# Altium footprint library Inductor2.PcbLib: 19 footprints (part 1 of 2)
Each footprint in its own frame and in the unit in brackets; x right, y up, seen from the top. Pads: shape width x height; smd on the part's side, far side on the other; paste and mask are expansions set on the pad; w line width, h text height; cw(c..) or ccw(c..) is an arc to the next point about the centre after c.
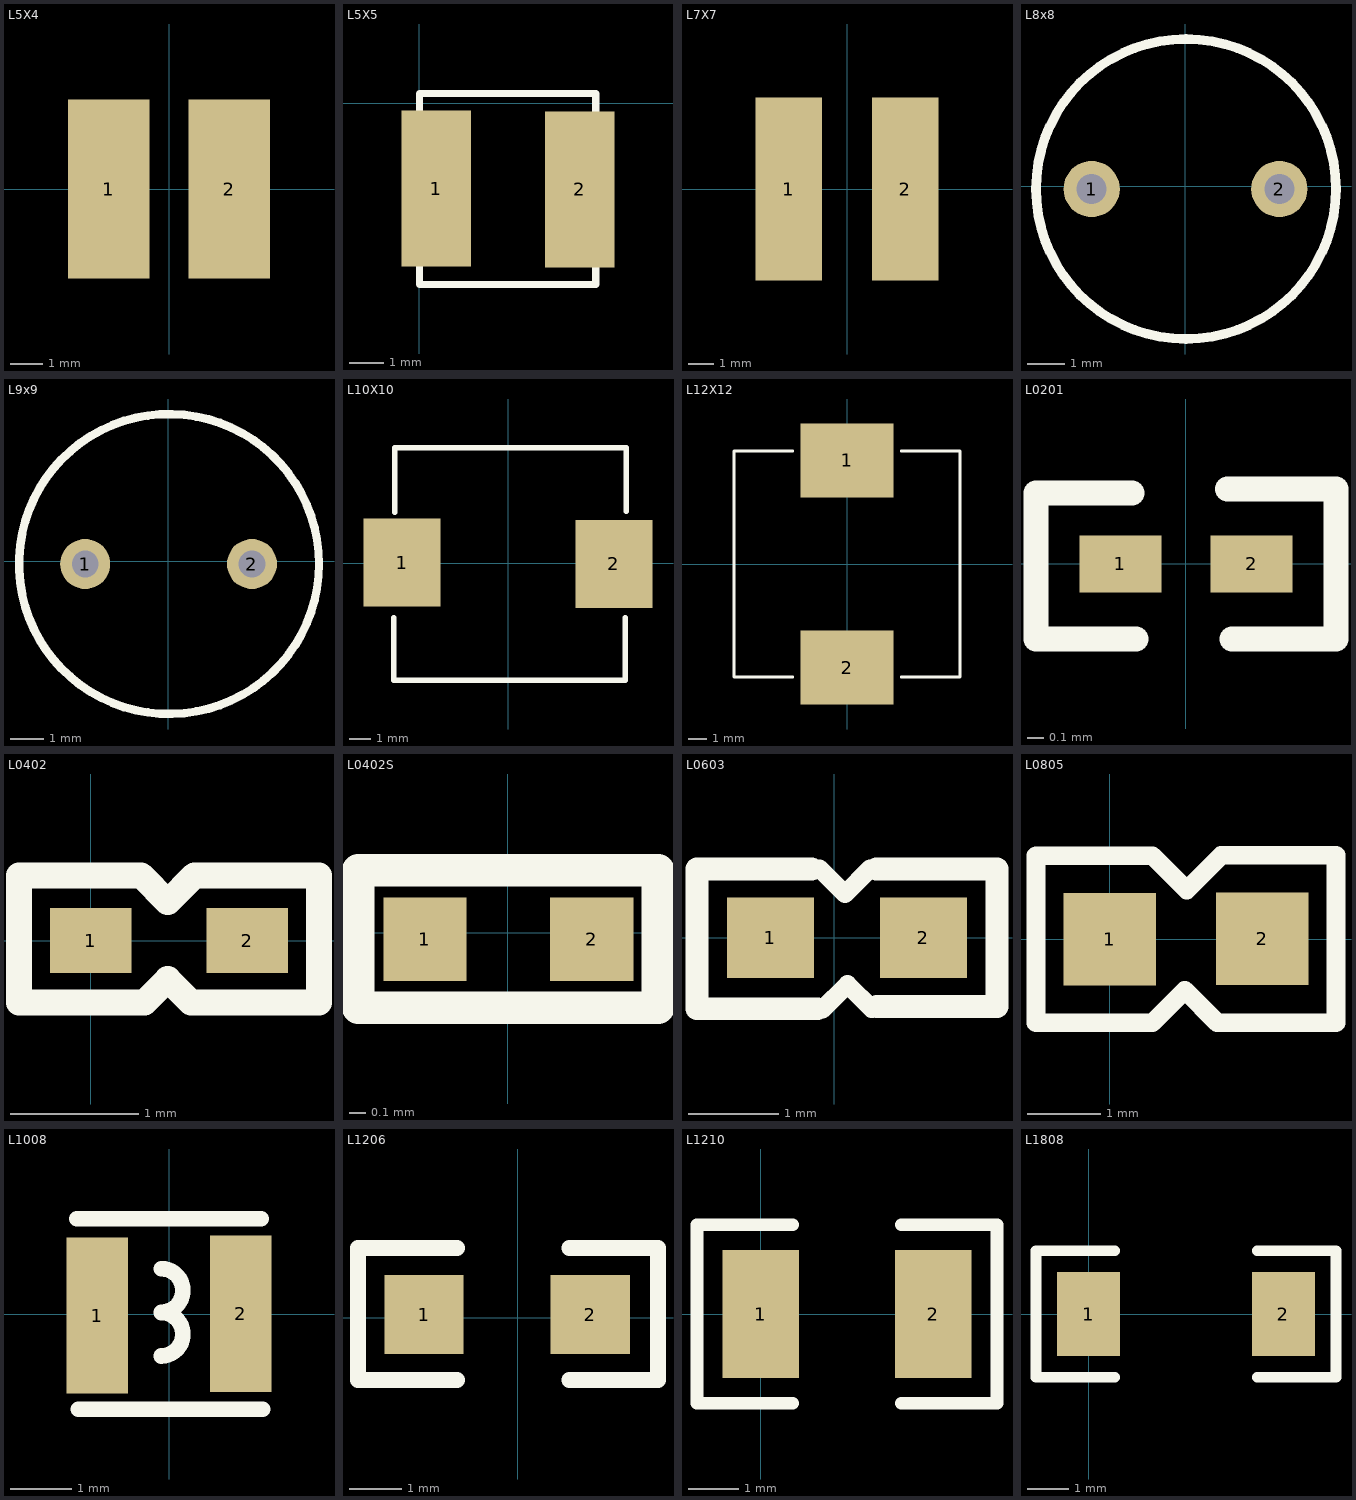
[diagram p0: the footprints below, top view; thin cyan lines are the x and y axes]

## L5X4 [mm]
height 4.5
pads (2):
  rect 2.5x5.5 smd: 1(-1.85,0) 2(1.85,0)
3D body "电感": height 4.5, standoff -0.01, extent -2.857,-2.6 2.857,2.6

## L5X5 [mil]
pads (2):
  rect 78.74x177.17 smd: 1(19,-97) 2(182,-98)
Top Overlay:
  lines w8: 0,-206 200,-206 200,11 0,11 0,-206
3D body "CDRH4D28.step": height 114.37, standoff 0, extent 2.55,-193.46 195.46,-0.54

## L7X7 [mm] "POWER INDUCTOR 5uH"
pads (2):
  rect 2.65x7.3 smd: 1(-2.325,0) 2(2.325,0)
3D body "SUMIDA-CDRH6D28.STEP": height 2.9, standoff 0, extent -3.36,-3.33 3.34,3.37

## L8x8 [mm] "L?"
pads (2):
  round 1.5 hole 0.8: 1(-2.489,-0.076) 2(2.515,-0.076)
Top Overlay:
  circle w0.254: c0.025,-0.076 r4
3D body "Inductor.step": height 11.2, standoff -5, extent -4.134,-4.236 4.166,4.064

## L9x9 [mm] "L?"
pads (2):
  round 1.5 hole 0.8: 1(-2.489,-0.076) 2(2.515,-0.076)
Top Overlay:
  circle w0.254: c0.025,-0.076 r4.5
3D body "RLB9012-222KL Radial Inductor [Bourns] (Pitch 0_7mm).step": height 11.8, standoff -30, extent -4.526,-4.649 4.474,4.351

## L10X10 [mil]
pads (2):
  rect 140x160 smd: 1(-192.08,1.25) 2(192.08,-1.25)
Top Overlay:
  lines w10: -207.08,-98.75 -207.08,-212.08 212.92,-212.08 212.92,-98.75 ; -205.42,92.92 -205.42,209.58 214.58,209.58 214.58,94.58
3D body: height 157.48, standoff 0, extent -207,-213 215,211

## L12X12 [mm]
pads (2):
  rect 5x4 smd mask+0: 1(0,5.588) 2(0,-5.588)
Top Overlay:
  lines w0.152: -2.921,-6.096 -6.096,-6.096 -6.096,6.096 -5.588,6.096 -2.921,6.096 ; 2.921,-6.096 5.588,-6.096 6.096,-6.096 6.096,6.096 2.921,6.096
3D body: height 4, standoff 0, extent -6.096,-6.096 5.969,6.096

## L0201 [mm] "1/16W"
pads (2):
  rect 0.5x0.35 smd: 1(-0.4,0) 2(0.4,0)
Top Overlay:
  lines w0.152: -0.33,0.432 -0.914,0.432 -0.914,-0.457 -0.305,-0.457 ; 0.254,0.457 0.914,0.457 0.914,-0.457 0.279,-0.457
3D body "0201HD.STEP": height 0.3, standoff 0, extent -0.3,-0.15 0.3,0.15

## L0402 [mil]
pads (2):
  rect 25x20 smd: 1(0,0) 2(48,0)
Top Overlay:
  lines w8: -22,-19 -22,20 15.43,20 23.62,11.81 31.81,20 70,20 70,-19 30.81,-19 23.62,-11.81 16.43,-19 -22,-19
3D body: height 10, standoff 0, extent 41,-10 44,10
3D body: height 10, standoff 0, extent 5,-10 8,10
3D body: height 10, standoff 0, extent 8,-10 41,10

## L0402S [mil] "1/16W"
pads (2):
  rect 20x20 smd: 1(-19.93,-1.58) 2(20.07,-1.58)
Top Overlay:
  lines w7.87: -36,-18 -36,15 36,15 36,-18 -36,-18
3D body: height 10, standoff 0, extent -16.5,-11.58 16.5,8.42
3D body: height 10, standoff 0, extent -19.5,-11.58 -16.5,8.42
3D body: height 10, standoff 0, extent 16.5,-11.58 19.5,8.42

## L0603 [mil]
pads (2):
  rect 38x35 smd: 1(-28,0) 2(38.87,0)
Top Overlay:
  lines w8: -6.53,30.27 4.6,19.14 15.58,30.12 ; -5.3,-31.36 5.7,-20.36 16.32,-30.98
  lines w10: -9.9,30 -60,30 -60,-31 -7.3,-31 ; 18.4,30 71,30 71,-30 18.6,-30
3D body: height 20, standoff 0, extent -24,-15 -16,15
3D body: height 20, standoff 0, extent 28,-15 36,15
3D body: height 20, standoff 0, extent -16,-15 28,15

## L0805 [mil] "1/8W"
pads (2):
  rect 50x50 smd: 1(0,0) 2(82.3,0.2)
Top Overlay:
  lines w10: -39.8,-45 -39.8,45 23,45 41.5,26.5 60.2,45.2 122,45.2 122,-45 58,-45 40.5,-27.5 23,-45 -39.8,-45
3D body "R0805.STEP": height 21.65, standoff 0, extent 1.43,-24.4 80.17,25.21

## L1008 [mil] "2520"
height 209.84
pads (2):
  rect 39.37x100 smd: 1(-46,-1) 2(46,0.13)
Top Overlay:
  lines w10: -59.06,61 59.06,61 ; -58.11,-61 60,-61 ; -5,-26.86 ccw(c-5,-12.93) -5,1 ; -5,1.14 ccw(c-5,15.07) -5,29
3D body "AISC-1008F.STEP": height 91.14, standoff 0.09, extent -57.48,-54.92 57.48,54.93

## L1206 [mil] "1/4W"
pads (2):
  rect 60x60 smd: 1(-70.98,2.53) 2(55,2.53)
Top Overlay:
  lines w12: -46,-47 -121,-47 -121,53 -46,53 ; 39,-47 106.3,-47 106.3,53 39,53
3D body "V1206HD.STEP": height 62.99, standoff 0, extent -70.98,-27 55,32.06

## L1210 [mil]
pads (2):
  rect 60x100 smd: 1(0,0) 2(135,0)
Top Overlay:
  lines w10: 25,-70 -50,-70 -50,70 25,70 ; 110,-70 185,-70 185,70 110,70
3D body "L1210.STEP": height 78.74, standoff 0, extent 7.09,-51.96 131.11,46.48

## L1808 [mil]
pads (2):
  rect 60x80 smd: 1(0,0) 2(185,0)
Top Overlay:
  lines w10: 25,-60 -50,-60 -50,60 25,60 ; 160,-60 235,-60 235,60 160,60
3D body "R1808(4520M)1.STEP": height 39.37, standoff 0, extent 2,-39 179.77,37.49